# Altium integrated library Analog Devices Data Converters Digital-to-Analog Converters.IntLib: 2231 symbols (part 179 of 181)
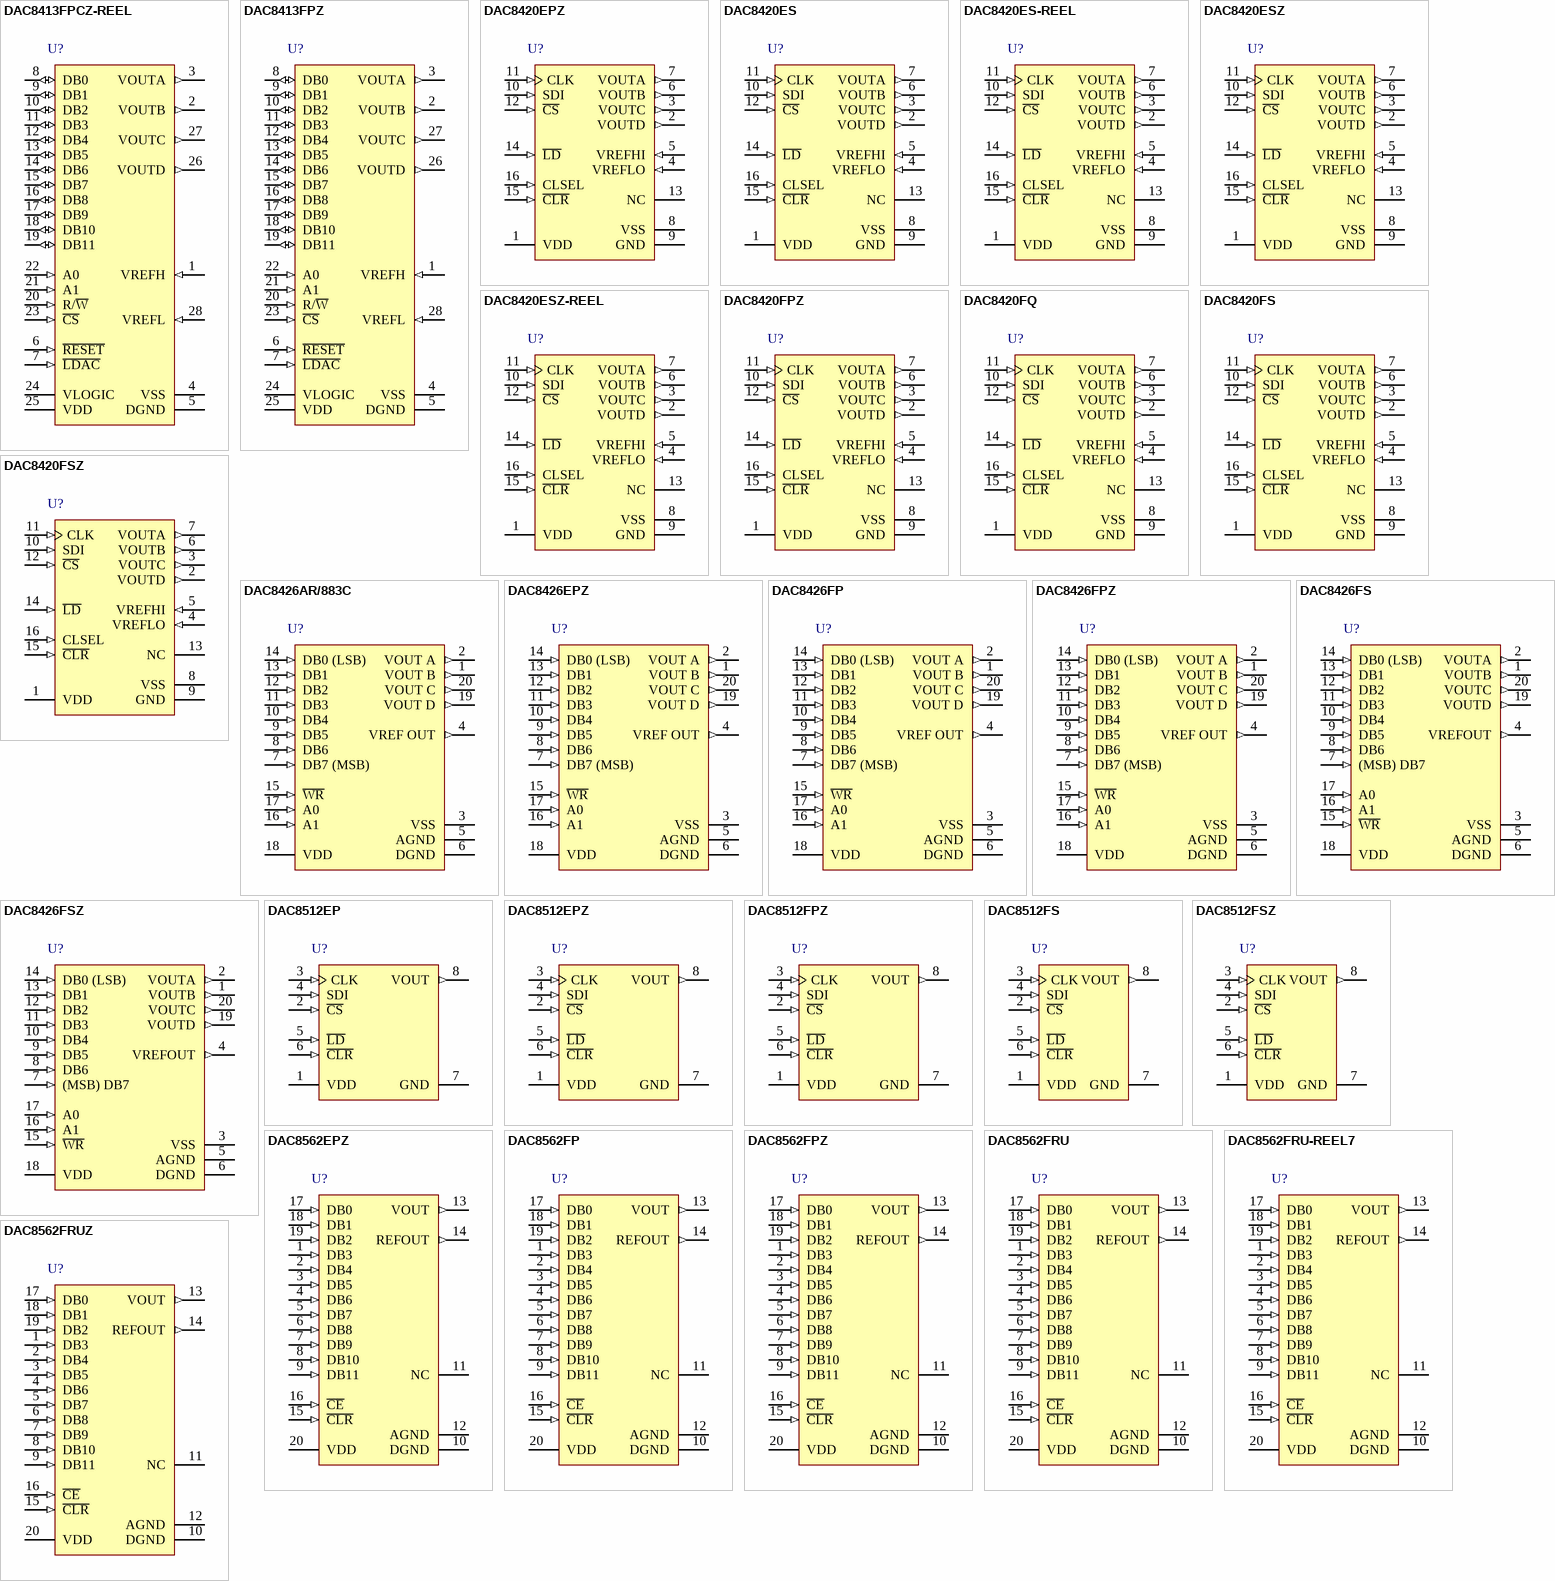
[diagram p292: symbols DAC8413FPCZ-REEL to DAC8562FRUZ]

## DAC8420EPZ
designator U?
Quad 12-Bit Voltage Output Digital-to-Analog Converter, -40 to +85 degC, N-16, Pb-Free, Tube; Generic Part Number: DAC8420; Manufacturer: Analog Devices; PartNumber: DAC8420EPZ; # DAC Outputs: 4; Max V+: 15.75V; Op Pwr Diss: 255mW; Resolution (Bits): 12; Settling Time: 8µs; Single Supply: Yes; DatasheetVersion: Rev.B; PackageVersion: 070706-A; PackageReference: N-16; PackageDescription: 16-Lead Plastic Dual In-Line Package [PDIP] Narrow Body; Supplier 1: Digi-Key; Supplier Part Number 1: DAC8420EPZ-ND; Supplier 2: Newark; Supplier Part Number 2: 59K7945; Supplier 3: Mouser; Supplier Part Number 3: 584-DAC8420EPZ; Packing: Tube; RoHS: Y; Mounting Technology: Through Hole; Code_JEDEC: MS-001; ComponentLink1Description: Manufacturer URL; ComponentLink1URL: http://www.analog.com/en/index.html; ComponentLink2Description: Datasheet; ComponentLink2URL: http://www.analog.com/static/imported-files/data_sheets/DAC8420.pdf; ComponentLink3Description: Package Specification; ComponentLink3URL: http://www.analog.com/static/imported-files/packages/44768431550332N_16.pdf; ComponentLink4Description: Product URL; ComponentLink4URL: http://www.analog.com/en/digital-to-analog-converters/da-converters/dac8420/products/product.html
footprint N-16 (DIP, 16-Leads, Row Spacing 7.62mm, Pitch 2.54mm, Body 20.1x6.6mm)
pins: 1 VDD (power) "Positive Power Supply, 5 V to 15 V.", 2 VOUTD (out) "Buffered DAC Analog Voltage Outputs.", 3 VOUTC (out) "Buffered DAC Analog Voltage Outputs.", 4 VREFLO (in) "Reference Input. Lower DAC ladder reference voltage input, equal to zero-scale output. Allowable range is VSS to (VVREFHI - 2.5 V).", 5 VREFHI (in) "Reference Input. Upper DAC ladder reference voltage input. Allowable range is (VDD - 2.5 V) to ( VVREFLO + 2.5 V).", 6 VOUTB (out) "Buffered DAC Analog Voltage Outputs.", 7 VOUTA (out) "Buffered DAC Analog Voltage Outputs.", 8 VSS (power) "Negative Power Supply, 0 V to -15 V.", 9 GND (power) "Power Supply, Digital Ground.", 10 SDI (in) "Serial Data Input. Data presented to this pin is loaded into the internal serial-parallel shift register,which shifts data in, beginning with DAC Address Bit A1. This input is ignored when C\S\ is high. SDI is CMOS/TTL (See Datasheet)", 11 CLK (in) "System Serial Data Clock Input, TTL/CMOS Levels. Data presented to the input SDI is shifted into the internal serial-parallel input register on the rising edge of clock. This input is logically OR'ed with C\S\.", 12 ~{CS} (in) "Control Input, Device Chip Select, Active Low. This input is logically OR'ed with the clock and disables the serial data register input when high. When low, data input clocking is enabled (see Table 6). C\S\ is CMOS/TTL (See Datasheet)", 13 NC "No Connect = Don't Care.", 14 ~{LD} (in) "Control Input, Asynchronous DAC Register Load Control, Active Low. The data currently contained in the serial input shift register is shifted out to the DAC data registers on the falling edge of L\D\, independent of C\S\. (See Datasheet)", 15 ~{CLR} (in) "Control Input, Asynchronous Clear, Active Low. Sets internal data Register A through Register D to zero or midscale, depending on current state of CLSEL. The data in the serial input shift register is unaffected by this (See Datasheet)", 16 CLSEL (in) "Control Input, Determines action of C\L\R\. If high, a clear command sets the internal DAC Register A through Register D to midscale (0x800). If low, the registers are set to zero (0x000). CLSEL is CMOS/TTL compatible."

## DAC8420ES
designator U?
Quad 12-Bit Voltage Output Digital-to-Analog Converter, -40 to +85 degC, RW-16, Tube; Generic Part Number: DAC8420; Manufacturer: Analog Devices; PartNumber: DAC8420ES; # DAC Outputs: 4; Max V+: 15.75V; Op Pwr Diss: 255mW; Resolution (Bits): 12; Settling Time: 8µs; Single Supply: Yes; DatasheetVersion: Rev.B; PackageVersion: 032707-B; PackageReference: RW-16; PackageDescription: 16-Lead Standard Small Outline Package [SOIC_W]; Supplier 1: Digi-Key; Supplier Part Number 1: DAC8420ES-ND; Supplier 2: Mouser; Supplier Part Number 2: 584-DAC8420ES; Packing: Tube; RoHS: N; Mounting Technology: Surface Mount; Code_JEDEC: MS-013-AA; Code_IPC: SOIC127P1030-16; ComponentLink1Description: Manufacturer URL; ComponentLink1URL: http://www.analog.com/en/index.html; ComponentLink2Description: Datasheet; ComponentLink2URL: http://www.analog.com/static/imported-files/data_sheets/DAC8420.pdf; ComponentLink3Description: Package Specification; ComponentLink3URL: http://www.analog.com/static/imported-files/packages/PKG_PDF/SOIC_WIDE%20%28RW%29/RW_16.pdf; ComponentLink4Description: Product URL; ComponentLink4URL: http://www.analog.com/en/digital-to-analog-converters/da-converters/dac8420/products/product.html
footprint RW-16_N (SOIC, 16-Leads, Body 10.3x7.5mm, Pitch 1.27mm, IPC Medium Density)
footprint RW-16_L (SOIC, 16-Leads, Body 10.3x7.5mm, Pitch 1.27mm, IPC High Density)
footprint RW-16_M (SOIC, 16-Leads, Body 10.3x7.5mm, Pitch 1.27mm, IPC Low Density)
pins: 1 VDD (power) "Positive Power Supply, 5 V to 15 V.", 2 VOUTD (out) "Buffered DAC Analog Voltage Outputs.", 3 VOUTC (out) "Buffered DAC Analog Voltage Outputs.", 4 VREFLO (in) "Reference Input. Lower DAC ladder reference voltage input, equal to zero-scale output. Allowable range is VSS to (VVREFHI - 2.5 V).", 5 VREFHI (in) "Reference Input. Upper DAC ladder reference voltage input. Allowable range is (VDD - 2.5 V) to ( VVREFLO + 2.5 V).", 6 VOUTB (out) "Buffered DAC Analog Voltage Outputs.", 7 VOUTA (out) "Buffered DAC Analog Voltage Outputs.", 8 VSS (power) "Negative Power Supply, 0 V to -15 V.", 9 GND (power) "Power Supply, Digital Ground.", 10 SDI (in) "Serial Data Input. Data presented to this pin is loaded into the internal serial-parallel shift register, which shifts data in, beginning with DAC Address Bit A1. This input is ignored when C\S\ is high. SDI is CMOS/TTL (See Datasheet)", 11 CLK (in) "System Serial Data Clock Input, TTL/CMOS Levels. Data presented to the input SDI is shifted into the internal serial-parallel input register on the rising edge of clock. This input is logically OR’ed with C\S\.", 12 ~{CS} (in) "Control Input, Device Chip Select, Active Low. This input is logically OR’ed with the clock and disables the serial data register input when high. When low, data input clocking is enabled (see Table 6). C\S\ is CMOS/TTL (See Datasheet)", 13 NC "No Connect = Don’t Care.", 14 ~{LD} (in) "Control Input, Asynchronous DAC Register Load Control, Active Low. The data currently contained in the serial input shift register is shifted out to the DAC data registers on the falling edge of L\D\, independent of C\S\. (See Datasheet)", 15 ~{CLR} (in) "Control Input, Asynchronous Clear, Active Low. Sets internal data Register A through Register D to zero or midscale, depending on current state of CLSEL. The data in the serial input shift register is unaffected by this (See Datasheet)", 16 CLSEL (in) "Control Input, Determines action of C\L\R\. If high, a clear command sets the internal DAC Register A through Register D to midscale (0x800). If low, the registers are set to zero (0x000). CLSEL is CMOS/TTL compatible."

## DAC8420ES-REEL
designator U?
Quad 12-Bit Voltage Output Digital-to-Analog Converter, -40 to +85 degC, RW-16, Reel; Generic Part Number: DAC8420; Manufacturer: Analog Devices; PartNumber: DAC8420ES-REEL; # DAC Outputs: 4; Max V+: 15.75V; Op Pwr Diss: 255mW; Resolution (Bits): 12; Settling Time: 8µs; Single Supply: Yes; DatasheetVersion: Rev.B; PackageVersion: 032707-B; PackageReference: RW-16; PackageDescription: 16-Lead Standard Small Outline Package [SOIC_W]; Supplier 1: Digi-Key; Supplier Part Number 1: DAC8420ES-REEL-ND; Supplier 2: Newark; Supplier Part Number 2: 09B8140; Supplier 3: Mouser; Supplier Part Number 3: 584-DAC8420ES-R; Packing: Reel; RoHS: N; Mounting Technology: Surface Mount; Code_JEDEC: MS-013-AA; Code_IPC: SOIC127P1030-16; ComponentLink1Description: Manufacturer URL; ComponentLink1URL: http://www.analog.com/en/index.html; ComponentLink2Description: Datasheet; ComponentLink2URL: http://www.analog.com/static/imported-files/data_sheets/DAC8420.pdf; ComponentLink3Description: Package Specification; ComponentLink3URL: http://www.analog.com/static/imported-files/packages/PKG_PDF/SOIC_WIDE%20%28RW%29/RW_16.pdf; ComponentLink4Description: Product URL; ComponentLink4URL: http://www.analog.com/en/digital-to-analog-converters/da-converters/dac8420/products/product.html
footprint RW-16_N (SOIC, 16-Leads, Body 10.3x7.5mm, Pitch 1.27mm, IPC Medium Density)
footprint RW-16_L (SOIC, 16-Leads, Body 10.3x7.5mm, Pitch 1.27mm, IPC High Density)
footprint RW-16_M (SOIC, 16-Leads, Body 10.3x7.5mm, Pitch 1.27mm, IPC Low Density)
pins: 1 VDD (power) "Positive Power Supply, 5 V to 15 V.", 2 VOUTD (out) "Buffered DAC Analog Voltage Outputs.", 3 VOUTC (out) "Buffered DAC Analog Voltage Outputs.", 4 VREFLO (in) "Reference Input. Lower DAC ladder reference voltage input, equal to zero-scale output. Allowable range is VSS to (VVREFHI - 2.5 V).", 5 VREFHI (in) "Reference Input. Upper DAC ladder reference voltage input. Allowable range is (VDD - 2.5 V) to ( VVREFLO + 2.5 V).", 6 VOUTB (out) "Buffered DAC Analog Voltage Outputs.", 7 VOUTA (out) "Buffered DAC Analog Voltage Outputs.", 8 VSS (power) "Negative Power Supply, 0 V to -15 V.", 9 GND (power) "Power Supply, Digital Ground.", 10 SDI (in) "Serial Data Input. Data presented to this pin is loaded into the internal serial-parallel shift register, which shifts data in, beginning with DAC Address Bit A1. This input is ignored when C\S\ is high. SDI is CMOS/TTL (See Datasheet)", 11 CLK (in) "System Serial Data Clock Input, TTL/CMOS Levels. Data presented to the input SDI is shifted into the internal serial-parallel input register on the rising edge of clock. This input is logically OR’ed with C\S\.", 12 ~{CS} (in) "Control Input, Device Chip Select, Active Low. This input is logically OR’ed with the clock and disables the serial data register input when high. When low, data input clocking is enabled (see Table 6). C\S\ is CMOS/TTL (See Datasheet)", 13 NC "No Connect = Don’t Care.", 14 ~{LD} (in) "Control Input, Asynchronous DAC Register Load Control, Active Low. The data currently contained in the serial input shift register is shifted out to the DAC data registers on the falling edge of L\D\, independent of C\S\. (See Datasheet)", 15 ~{CLR} (in) "Control Input, Asynchronous Clear, Active Low. Sets internal data Register A through Register D to zero or midscale, depending on current state of CLSEL. The data in the serial input shift register is unaffected by this (See Datasheet)", 16 CLSEL (in) "Control Input, Determines action of C\L\R\. If high, a clear command sets the internal DAC Register A through Register D to midscale (0x800). If low, the registers are set to zero (0x000). CLSEL is CMOS/TTL compatible."

## DAC8420ESZ
designator U?
Quad 12-Bit Voltage Output Digital-to-Analog Converter, -40 to +85 degC, RW-16, Pb-Free, Tube; Generic Part Number: DAC8420; Manufacturer: Analog Devices; PartNumber: DAC8420ESZ; # DAC Outputs: 4; Max V+: 15.75V; Op Pwr Diss: 255mW; Resolution (Bits): 12; Settling Time: 8µs; Single Supply: Yes; DatasheetVersion: Rev.B; PackageVersion: 032707-B; PackageReference: RW-16; PackageDescription: 16-Lead Standard Small Outline Package [SOIC_W]; Supplier 1: Digi-Key; Supplier Part Number 1: DAC8420ESZ-ND; Supplier 2: Farnell; Supplier Part Number 2: 9425810; Supplier 3: Newark; Supplier Part Number 3: 19M1213; Supplier 4: Mouser; Supplier Part Number 4: 584-DAC8420ESZ; Packing: Tube; RoHS: Y; Mounting Technology: Surface Mount; Code_JEDEC: MS-013-AA; Code_IPC: SOIC127P1030-16; ComponentLink1Description: Manufacturer URL; ComponentLink1URL: http://www.analog.com/en/index.html; ComponentLink2Description: Datasheet; ComponentLink2URL: http://www.analog.com/static/imported-files/data_sheets/DAC8420.pdf; ComponentLink3Description: Package Specification; ComponentLink3URL: http://www.analog.com/static/imported-files/packages/PKG_PDF/SOIC_WIDE%20%28RW%29/RW_16.pdf; ComponentLink4Description: Product URL; ComponentLink4URL: http://www.analog.com/en/digital-to-analog-converters/da-converters/dac8420/products/product.html
footprint RW-16_N (SOIC, 16-Leads, Body 10.3x7.5mm, Pitch 1.27mm, IPC Medium Density)
footprint RW-16_L (SOIC, 16-Leads, Body 10.3x7.5mm, Pitch 1.27mm, IPC High Density)
footprint RW-16_M (SOIC, 16-Leads, Body 10.3x7.5mm, Pitch 1.27mm, IPC Low Density)
pins: 1 VDD (power) "Positive Power Supply, 5 V to 15 V.", 2 VOUTD (out) "Buffered DAC Analog Voltage Outputs.", 3 VOUTC (out) "Buffered DAC Analog Voltage Outputs.", 4 VREFLO (in) "Reference Input. Lower DAC ladder reference voltage input, equal to zero-scale output. Allowable range is VSS to (VVREFHI - 2.5 V).", 5 VREFHI (in) "Reference Input. Upper DAC ladder reference voltage input. Allowable range is (VDD - 2.5 V) to ( VVREFLO + 2.5 V).", 6 VOUTB (out) "Buffered DAC Analog Voltage Outputs.", 7 VOUTA (out) "Buffered DAC Analog Voltage Outputs.", 8 VSS (power) "Negative Power Supply, 0 V to -15 V.", 9 GND (power) "Power Supply, Digital Ground.", 10 SDI (in) "Serial Data Input. Data presented to this pin is loaded into the internal serial-parallel shift register, which shifts data in, beginning with DAC Address Bit A1. This input is ignored when C\S\ is high. SDI is CMOS/TTL (See Datasheet)", 11 CLK (in) "System Serial Data Clock Input, TTL/CMOS Levels. Data presented to the input SDI is shifted into the internal serial-parallel input register on the rising edge of clock. This input is logically OR’ed with C\S\.", 12 ~{CS} (in) "Control Input, Device Chip Select, Active Low. This input is logically OR’ed with the clock and disables the serial data register input when high. When low, data input clocking is enabled (see Table 6). C\S\ is CMOS/TTL (See Datasheet)", 13 NC "No Connect = Don’t Care.", 14 ~{LD} (in) "Control Input, Asynchronous DAC Register Load Control, Active Low. The data currently contained in the serial input shift register is shifted out to the DAC data registers on the falling edge of L\D\, independent of C\S\. (See Datasheet)", 15 ~{CLR} (in) "Control Input, Asynchronous Clear, Active Low. Sets internal data Register A through Register D to zero or midscale, depending on current state of CLSEL. The data in the serial input shift register is unaffected by this (See Datasheet)", 16 CLSEL (in) "Control Input, Determines action of C\L\R\. If high, a clear command sets the internal DAC Register A through Register D to midscale (0x800). If low, the registers are set to zero (0x000). CLSEL is CMOS/TTL compatible."

## DAC8420ESZ-REEL
designator U?
Quad 12-Bit Voltage Output Digital-to-Analog Converter, -40 to +85 degC, RW-16, Pb-Free, Reel; Generic Part Number: DAC8420; Manufacturer: Analog Devices; PartNumber: DAC8420ESZ-REEL; # DAC Outputs: 4; Max V+: 15.75V; Op Pwr Diss: 255mW; Resolution (Bits): 12; Settling Time: 8µs; Single Supply: Yes; DatasheetVersion: Rev.B; PackageVersion: 032707-B; PackageReference: RW-16; PackageDescription: 16-Lead Standard Small Outline Package [SOIC_W]; Supplier 1: Digi-Key; Supplier Part Number 1: DAC8420ESZ-REEL-ND; Supplier 2: Newark; Supplier Part Number 2: 59K7947; Supplier 3: Mouser; Supplier Part Number 3: 584-DAC8420ESZ-R; Packing: Reel; RoHS: Y; Mounting Technology: Surface Mount; Code_JEDEC: MS-013-AA; Code_IPC: SOIC127P1030-16; ComponentLink1Description: Manufacturer URL; ComponentLink1URL: http://www.analog.com/en/index.html; ComponentLink2Description: Datasheet; ComponentLink2URL: http://www.analog.com/static/imported-files/data_sheets/DAC8420.pdf; ComponentLink3Description: Package Specification; ComponentLink3URL: http://www.analog.com/static/imported-files/packages/PKG_PDF/SOIC_WIDE%20%28RW%29/RW_16.pdf; ComponentLink4Description: Product URL; ComponentLink4URL: http://www.analog.com/en/digital-to-analog-converters/da-converters/dac8420/products/product.html
footprint RW-16_N (SOIC, 16-Leads, Body 10.3x7.5mm, Pitch 1.27mm, IPC Medium Density)
footprint RW-16_L (SOIC, 16-Leads, Body 10.3x7.5mm, Pitch 1.27mm, IPC High Density)
footprint RW-16_M (SOIC, 16-Leads, Body 10.3x7.5mm, Pitch 1.27mm, IPC Low Density)
pins: 1 VDD (power) "Positive Power Supply, 5 V to 15 V.", 2 VOUTD (out) "Buffered DAC Analog Voltage Outputs.", 3 VOUTC (out) "Buffered DAC Analog Voltage Outputs.", 4 VREFLO (in) "Reference Input. Lower DAC ladder reference voltage input, equal to zero-scale output. Allowable range is VSS to (VVREFHI - 2.5 V).", 5 VREFHI (in) "Reference Input. Upper DAC ladder reference voltage input. Allowable range is (VDD - 2.5 V) to ( VVREFLO + 2.5 V).", 6 VOUTB (out) "Buffered DAC Analog Voltage Outputs.", 7 VOUTA (out) "Buffered DAC Analog Voltage Outputs.", 8 VSS (power) "Negative Power Supply, 0 V to -15 V.", 9 GND (power) "Power Supply, Digital Ground.", 10 SDI (in) "Serial Data Input. Data presented to this pin is loaded into the internal serial-parallel shift register, which shifts data in, beginning with DAC Address Bit A1. This input is ignored when C\S\ is high. SDI is CMOS/TTL (See Datasheet)", 11 CLK (in) "System Serial Data Clock Input, TTL/CMOS Levels. Data presented to the input SDI is shifted into the internal serial-parallel input register on the rising edge of clock. This input is logically OR’ed with C\S\.", 12 ~{CS} (in) "Control Input, Device Chip Select, Active Low. This input is logically OR’ed with the clock and disables the serial data register input when high. When low, data input clocking is enabled (see Table 6). C\S\ is CMOS/TTL (See Datasheet)", 13 NC "No Connect = Don’t Care.", 14 ~{LD} (in) "Control Input, Asynchronous DAC Register Load Control, Active Low. The data currently contained in the serial input shift register is shifted out to the DAC data registers on the falling edge of L\D\, independent of C\S\. (See Datasheet)", 15 ~{CLR} (in) "Control Input, Asynchronous Clear, Active Low. Sets internal data Register A through Register D to zero or midscale, depending on current state of CLSEL. The data in the serial input shift register is unaffected by this (See Datasheet)", 16 CLSEL (in) "Control Input, Determines action of C\L\R\. If high, a clear command sets the internal DAC Register A through Register D to midscale (0x800). If low, the registers are set to zero (0x000). CLSEL is CMOS/TTL compatible."

## DAC8420FPZ
designator U?
Quad 12-Bit Voltage Output Digital-to-Analog Converter, -40 to +85 degC, N-16, Pb-Free, Tube; Generic Part Number: DAC8420; Manufacturer: Analog Devices; PartNumber: DAC8420FPZ; # DAC Outputs: 4; Max V+: 15.75V; Op Pwr Diss: 255mW; Resolution (Bits): 12; Settling Time: 8µs; Single Supply: Yes; DatasheetVersion: Rev.B; PackageVersion: 070706-A; PackageReference: N-16; PackageDescription: 16-Lead Plastic Dual In-Line Package [PDIP] Narrow Body; Supplier 1: Digi-Key; Supplier Part Number 1: DAC8420FPZ-ND; Supplier 2: Newark; Supplier Part Number 2: 59K7948; Supplier 3: Mouser; Supplier Part Number 3: 584-DAC8420FPZ; Packing: Tube; RoHS: Y; Mounting Technology: Through Hole; Code_JEDEC: MS-001; ComponentLink1Description: Manufacturer URL; ComponentLink1URL: http://www.analog.com/en/index.html; ComponentLink2Description: Datasheet; ComponentLink2URL: http://www.analog.com/static/imported-files/data_sheets/DAC8420.pdf; ComponentLink3Description: Package Specification; ComponentLink3URL: http://www.analog.com/static/imported-files/packages/44768431550332N_16.pdf; ComponentLink4Description: Product URL; ComponentLink4URL: http://www.analog.com/en/digital-to-analog-converters/da-converters/dac8420/products/product.html
footprint N-16 (DIP, 16-Leads, Row Spacing 7.62mm, Pitch 2.54mm, Body 20.1x6.6mm)
pins: 1 VDD (power) "Positive Power Supply, 5 V to 15 V.", 2 VOUTD (out) "Buffered DAC Analog Voltage Outputs.", 3 VOUTC (out) "Buffered DAC Analog Voltage Outputs.", 4 VREFLO (in) "Reference Input. Lower DAC ladder reference voltage input, equal to zero-scale output. Allowable range is VSS to (VVREFHI - 2.5 V).", 5 VREFHI (in) "Reference Input. Upper DAC ladder reference voltage input. Allowable range is (VDD - 2.5 V) to ( VVREFLO + 2.5 V).", 6 VOUTB (out) "Buffered DAC Analog Voltage Outputs.", 7 VOUTA (out) "Buffered DAC Analog Voltage Outputs.", 8 VSS (power) "Negative Power Supply, 0 V to -15 V.", 9 GND (power) "Power Supply, Digital Ground.", 10 SDI (in) "Serial Data Input. Data presented to this pin is loaded into the internal serial-parallel shift register,which shifts data in, beginning with DAC Address Bit A1. This input is ignored when C\S\ is high. SDI is CMOS/TTL (See Datasheet)", 11 CLK (in) "System Serial Data Clock Input, TTL/CMOS Levels. Data presented to the input SDI is shifted into the internal serial-parallel input register on the rising edge of clock. This input is logically OR'ed with C\S\.", 12 ~{CS} (in) "Control Input, Device Chip Select, Active Low. This input is logically OR'ed with the clock and disables the serial data register input when high. When low, data input clocking is enabled (see Table 6). C\S\ is CMOS/TTL (See Datasheet)", 13 NC "No Connect = Don't Care.", 14 ~{LD} (in) "Control Input, Asynchronous DAC Register Load Control, Active Low. The data currently contained in the serial input shift register is shifted out to the DAC data registers on the falling edge of L\D\, independent of C\S\. (See Datasheet)", 15 ~{CLR} (in) "Control Input, Asynchronous Clear, Active Low. Sets internal data Register A through Register D to zero or midscale, depending on current state of CLSEL. The data in the serial input shift register is unaffected by this (See Datasheet)", 16 CLSEL (in) "Control Input, Determines action of C\L\R\. If high, a clear command sets the internal DAC Register A through Register D to midscale (0x800). If low, the registers are set to zero (0x000). CLSEL is CMOS/TTL compatible."

## DAC8420FQ
designator U?
Quad 12-Bit Voltage Output Digital-to-Analog Converter, -40 to +85 degC, Q-16, Tube; Generic Part Number: DAC8420; Manufacturer: Analog Devices; PartNumber: DAC8420FQ; # DAC Outputs: 4; Max V+: 15.75V; Op Pwr Diss: 255mW; Resolution (Bits): 12; Settling Time: 8µs; Single Supply: Yes; DatasheetVersion: Rev.B; PackageVersion: 1996; PackageReference: Q-16; PackageDescription: DIP, 16-Pin, Skinny Dual In-line Package, 300mil Wide, Pitch 2.54 mm; Supplier 1: Digi-Key; Supplier Part Number 1: DAC8420FQ-ND; Supplier 2: Mouser; Supplier Part Number 2: 584-DAC8420FQ; Packing: Tube; RoHS: N; Mounting Technology: Through Hole; ComponentLink1Description: Manufacturer URL; ComponentLink1URL: http://www.analog.com/en/index.html; ComponentLink2Description: Datasheet; ComponentLink2URL: http://www.analog.com/static/imported-files/data_sheets/DAC8420.pdf; ComponentLink3Description: Package Specification; ComponentLink3URL: http://www.analog.com/static/imported-files/packages/54083157002221Q_16.pdf; ComponentLink4Description: Product URL; ComponentLink4URL: http://www.analog.com/en/digital-to-analog-converters/da-converters/dac8420/products/product.html
footprint Q-16 (DIP, 16-Leads, Row Spacing 7.62mm, Pitch 2.54mm, Body 20.07x6.73mm)
pins: 1 VDD (power) "Positive Power Supply, 5 V to 15 V.", 2 VOUTD (out) "Buffered DAC Analog Voltage Outputs.", 3 VOUTC (out) "Buffered DAC Analog Voltage Outputs.", 4 VREFLO (in) "Reference Input. Lower DAC ladder reference voltage input, equal to zero-scale output. Allowable range is VSS to (VVREFHI - 2.5 V).", 5 VREFHI (in) "Reference Input. Upper DAC ladder reference voltage input. Allowable range is (VDD - 2.5 V) to ( VVREFLO + 2.5 V).", 6 VOUTB (out) "Buffered DAC Analog Voltage Outputs.", 7 VOUTA (out) "Buffered DAC Analog Voltage Outputs.", 8 VSS (power) "Negative Power Supply, 0 V to -15 V.", 9 GND (power) "Power Supply, Digital Ground.", 10 SDI (in) "Serial Data Input. Data presented to this pin is loaded into the internal serial-parallel shift register, which shifts data in, beginning with DAC Address Bit A1. This input is ignored when C\S\ is high. SDI is CMOS/TTL (See Datasheet)", 11 CLK (in) "System Serial Data Clock Input, TTL/CMOS Levels. Data presented to the input SDI is shifted into the internal serial-parallel input register on the rising edge of clock. This input is logically OR’ed with C\S\.", 12 ~{CS} (in) "Control Input, Device Chip Select, Active Low. This input is logically OR’ed with the clock and disables the serial data register input when high. When low, data input clocking is enabled (see Table 6). C\S\ is CMOS/TTL (See Datasheet)", 13 NC "No Connect = Don’t Care.", 14 ~{LD} (in) "Control Input, Asynchronous DAC Register Load Control, Active Low. The data currently contained in the serial input shift register is shifted out to the DAC data registers on the falling edge of L\D\, independent of C\S\. (See Datasheet)", 15 ~{CLR} (in) "Control Input, Asynchronous Clear, Active Low. Sets internal data Register A through Register D to zero or midscale, depending on current state of CLSEL. The data in the serial input shift register is unaffected by this (See Datasheet)", 16 CLSEL (in) "Control Input, Determines action of C\L\R\. If high, a clear command sets the internal DAC Register A through Register D to midscale (0x800). If low, the registers are set to zero (0x000). CLSEL is CMOS/TTL compatible."

## DAC8420FS
designator U?
Quad 12-Bit Voltage Output Digital-to-Analog Converter, -40 to +85 degC, RW-16, Tube; Generic Part Number: DAC8420; Manufacturer: Analog Devices; PartNumber: DAC8420FS; # DAC Outputs: 4; Max V+: 15.75V; Op Pwr Diss: 255mW; Resolution (Bits): 12; Settling Time: 8µs; Single Supply: Yes; DatasheetVersion: Rev.B; PackageVersion: 032707-B; PackageReference: RW-16; PackageDescription: 16-Lead Standard Small Outline Package [SOIC_W]; Supplier 1: Digi-Key; Supplier Part Number 1: DAC8420FS-ND; Supplier 2: Mouser; Supplier Part Number 2: 584-DAC8420FS; Packing: Tube; RoHS: N; Mounting Technology: Surface Mount; Code_JEDEC: MS-013-AA; Code_IPC: SOIC127P1030-16; ComponentLink1Description: Manufacturer URL; ComponentLink1URL: http://www.analog.com/en/index.html; ComponentLink2Description: Datasheet; ComponentLink2URL: http://www.analog.com/static/imported-files/data_sheets/DAC8420.pdf; ComponentLink3Description: Package Specification; ComponentLink3URL: http://www.analog.com/static/imported-files/packages/PKG_PDF/SOIC_WIDE%20%28RW%29/RW_16.pdf; ComponentLink4Description: Product URL; ComponentLink4URL: http://www.analog.com/en/digital-to-analog-converters/da-converters/dac8420/products/product.html
footprint RW-16_N (SOIC, 16-Leads, Body 10.3x7.5mm, Pitch 1.27mm, IPC Medium Density)
footprint RW-16_L (SOIC, 16-Leads, Body 10.3x7.5mm, Pitch 1.27mm, IPC High Density)
footprint RW-16_M (SOIC, 16-Leads, Body 10.3x7.5mm, Pitch 1.27mm, IPC Low Density)
pins: 1 VDD (power) "Positive Power Supply, 5 V to 15 V.", 2 VOUTD (out) "Buffered DAC Analog Voltage Outputs.", 3 VOUTC (out) "Buffered DAC Analog Voltage Outputs.", 4 VREFLO (in) "Reference Input. Lower DAC ladder reference voltage input, equal to zero-scale output. Allowable range is VSS to (VVREFHI - 2.5 V).", 5 VREFHI (in) "Reference Input. Upper DAC ladder reference voltage input. Allowable range is (VDD - 2.5 V) to ( VVREFLO + 2.5 V).", 6 VOUTB (out) "Buffered DAC Analog Voltage Outputs.", 7 VOUTA (out) "Buffered DAC Analog Voltage Outputs.", 8 VSS (power) "Negative Power Supply, 0 V to -15 V.", 9 GND (power) "Power Supply, Digital Ground.", 10 SDI (in) "Serial Data Input. Data presented to this pin is loaded into the internal serial-parallel shift register, which shifts data in, beginning with DAC Address Bit A1. This input is ignored when C\S\ is high. SDI is CMOS/TTL (See Datasheet)", 11 CLK (in) "System Serial Data Clock Input, TTL/CMOS Levels. Data presented to the input SDI is shifted into the internal serial-parallel input register on the rising edge of clock. This input is logically OR’ed with C\S\.", 12 ~{CS} (in) "Control Input, Device Chip Select, Active Low. This input is logically OR’ed with the clock and disables the serial data register input when high. When low, data input clocking is enabled (see Table 6). C\S\ is CMOS/TTL (See Datasheet)", 13 NC "No Connect = Don’t Care.", 14 ~{LD} (in) "Control Input, Asynchronous DAC Register Load Control, Active Low. The data currently contained in the serial input shift register is shifted out to the DAC data registers on the falling edge of L\D\, independent of C\S\. (See Datasheet)", 15 ~{CLR} (in) "Control Input, Asynchronous Clear, Active Low. Sets internal data Register A through Register D to zero or midscale, depending on current state of CLSEL. The data in the serial input shift register is unaffected by this (See Datasheet)", 16 CLSEL (in) "Control Input, Determines action of C\L\R\. If high, a clear command sets the internal DAC Register A through Register D to midscale (0x800). If low, the registers are set to zero (0x000). CLSEL is CMOS/TTL compatible."

## DAC8420FSZ
designator U?
Quad 12-Bit Voltage Output Digital-to-Analog Converter, -40 to +85 degC, RW-16, Pb-Free, Tube; Generic Part Number: DAC8420; Manufacturer: Analog Devices; PartNumber: DAC8420FSZ; # DAC Outputs: 4; Max V+: 15.75V; Op Pwr Diss: 255mW; Resolution (Bits): 12; Settling Time: 8µs; Single Supply: Yes; DatasheetVersion: Rev.B; PackageVersion: 032707-B; PackageReference: RW-16; PackageDescription: 16-Lead Standard Small Outline Package [SOIC_W]; Supplier 1: Digi-Key; Supplier Part Number 1: DAC8420FSZ-ND; Supplier 2: Farnell; Supplier Part Number 2: 1389172; Supplier 3: Newark; Supplier Part Number 3: 12M9670; Supplier 4: Mouser; Supplier Part Number 4: 584-DAC8420FSZ; Packing: Tube; RoHS: Y; Mounting Technology: Surface Mount; Code_JEDEC: MS-013-AA; Code_IPC: SOIC127P1030-16; ComponentLink1Description: Manufacturer URL; ComponentLink1URL: http://www.analog.com/en/index.html; ComponentLink2Description: Datasheet; ComponentLink2URL: http://www.analog.com/static/imported-files/data_sheets/DAC8420.pdf; ComponentLink3Description: Package Specification; ComponentLink3URL: http://www.analog.com/static/imported-files/packages/PKG_PDF/SOIC_WIDE%20%28RW%29/RW_16.pdf; ComponentLink4Description: Product URL; ComponentLink4URL: http://www.analog.com/en/digital-to-analog-converters/da-converters/dac8420/products/product.html
footprint RW-16_N (SOIC, 16-Leads, Body 10.3x7.5mm, Pitch 1.27mm, IPC Medium Density)
footprint RW-16_L (SOIC, 16-Leads, Body 10.3x7.5mm, Pitch 1.27mm, IPC High Density)
footprint RW-16_M (SOIC, 16-Leads, Body 10.3x7.5mm, Pitch 1.27mm, IPC Low Density)
pins: 1 VDD (power) "Positive Power Supply, 5 V to 15 V.", 2 VOUTD (out) "Buffered DAC Analog Voltage Outputs.", 3 VOUTC (out) "Buffered DAC Analog Voltage Outputs.", 4 VREFLO (in) "Reference Input. Lower DAC ladder reference voltage input, equal to zero-scale output. Allowable range is VSS to (VVREFHI - 2.5 V).", 5 VREFHI (in) "Reference Input. Upper DAC ladder reference voltage input. Allowable range is (VDD - 2.5 V) to ( VVREFLO + 2.5 V).", 6 VOUTB (out) "Buffered DAC Analog Voltage Outputs.", 7 VOUTA (out) "Buffered DAC Analog Voltage Outputs.", 8 VSS (power) "Negative Power Supply, 0 V to -15 V.", 9 GND (power) "Power Supply, Digital Ground.", 10 SDI (in) "Serial Data Input. Data presented to this pin is loaded into the internal serial-parallel shift register, which shifts data in, beginning with DAC Address Bit A1. This input is ignored when C\S\ is high. SDI is CMOS/TTL (See Datasheet)", 11 CLK (in) "System Serial Data Clock Input, TTL/CMOS Levels. Data presented to the input SDI is shifted into the internal serial-parallel input register on the rising edge of clock. This input is logically OR’ed with C\S\.", 12 ~{CS} (in) "Control Input, Device Chip Select, Active Low. This input is logically OR’ed with the clock and disables the serial data register input when high. When low, data input clocking is enabled (see Table 6). C\S\ is CMOS/TTL (See Datasheet)", 13 NC "No Connect = Don’t Care.", 14 ~{LD} (in) "Control Input, Asynchronous DAC Register Load Control, Active Low. The data currently contained in the serial input shift register is shifted out to the DAC data registers on the falling edge of L\D\, independent of C\S\. (See Datasheet)", 15 ~{CLR} (in) "Control Input, Asynchronous Clear, Active Low. Sets internal data Register A through Register D to zero or midscale, depending on current state of CLSEL. The data in the serial input shift register is unaffected by this (See Datasheet)", 16 CLSEL (in) "Control Input, Determines action of C\L\R\. If high, a clear command sets the internal DAC Register A through Register D to midscale (0x800). If low, the registers are set to zero (0x000). CLSEL is CMOS/TTL compatible."

## DAC8426AR/883C
designator U?
Quad 8-Bit CMOS Digital-to-Analog Converter with Internal 10 V Reference, -55 to +125 degC, Q-20, Tube; Generic Part Number: DAC8426; Manufacturer: Analog Devices; PartNumber: DAC8426AR/883C; # DAC Outputs: 4; Max V+: 16.5V; Op Pwr Diss: 210mW; Resolution (Bits): 8; Settling Time: 3µs; Single Supply: Yes; DatasheetVersion: Rev.A; PackageVersion: Dec-2004; PackageReference: Q-20; PackageDescription: 20-Lead Ceramic Dual In-Line Package [CERDIP]; Supplier 1: Mouser; Supplier Part Number 1: 584-DAC8426AR883C; Packing: Tube; RoHS: N; Mounting Technology: Through Hole; ComponentLink1Description: Manufacturer URL; ComponentLink1URL: http://www.analog.com/en/index.html; ComponentLink2Description: Datasheet; ComponentLink2URL: http://www.analog.com/static/imported-files/data_sheets/DAC8426_Military.pdf; ComponentLink3Description: Package Specification; ComponentLink3URL: http://www.analog.com/static/imported-files/packages/50516416473314Q_20.pdf; ComponentLink4Description: Product URL; ComponentLink4URL: http://www.analog.com/en/digital-to-analog-converters/da-converters/dac8426/products/product.html
footprint Q-20 (DIP, 20-Leads, Row Spacing 7.62mm, Pitch 2.54mm, Body 25.9x6.7mm)
pins: 1 VOUT B (out), 2 VOUT A (out), 3 VSS (power), 4 VREF OUT (out), 5 AGND (power), 6 DGND (power), 7 DB7 (MSB) (in), 8 DB6 (in), 9 DB5 (in), 10 DB4 (in), 11 DB3 (in), 12 DB2 (in), 13 DB1 (in), 14 DB0 (LSB) (in), 15 ~{WR} (in), 16 A1 (in), 17 A0 (in), 18 VDD (power), 19 VOUT D (out), 20 VOUT C (out)

## DAC8426EPZ
designator U?
Quad 8-Bit CMOS Digital-to-Analog Converter with Internal 10 V Reference, -40 to +85 degC, N-20, Pb-Free, Tube; Generic Part Number: DAC8426; Manufacturer: Analog Devices; PartNumber: DAC8426EPZ; # DAC Outputs: 4; Max V+: 16.5V; Op Pwr Diss: 210mW; Resolution (Bits): 8; Settling Time: 3µs; Single Supply: Yes; DatasheetVersion: Rev.C; PackageVersion: 070706-A; PackageReference: N-20; PackageDescription: 20-Lead Plastic Dual In-Line Package [PDIP] Narrow Body; Supplier 1: Digi-Key; Supplier Part Number 1: DAC8426EPZ-ND; Supplier 2: Mouser; Supplier Part Number 2: 584-DAC8426EPZ; Packing: Tube; RoHS: Y; Mounting Technology: Through Hole; Code_JEDEC: MS-001; ComponentLink1Description: Manufacturer URL; ComponentLink1URL: http://www.analog.com/en/index.html; ComponentLink2Description: Datasheet; ComponentLink2URL: http://www.analog.com/static/imported-files/data_sheets/DAC8426.pdf; ComponentLink3Description: Package Specification; ComponentLink3URL: http://www.analog.com/static/imported-files/packages/50601349676519N_20.pdf; ComponentLink4Description: Product URL; ComponentLink4URL: http://www.analog.com/en/digital-to-analog-converters/da-converters/dac8426/products/product.html
footprint N-20 (DIP, 20-Leads, Row Spacing 7.62mm, Pitch 2.54mm, Body 25.9x6.6mm)
pins: 1 VOUT B (out), 2 VOUT A (out), 3 VSS (power), 4 VREF OUT (out), 5 AGND (power), 6 DGND (power), 7 DB7 (MSB) (in), 8 DB6 (in), 9 DB5 (in), 10 DB4 (in), 11 DB3 (in), 12 DB2 (in), 13 DB1 (in), 14 DB0 (LSB) (in), 15 ~{WR} (in), 16 A1 (in), 17 A0 (in), 18 VDD (power), 19 VOUT D (out), 20 VOUT C (out)

## DAC8426FP
designator U?
Quad 8-Bit CMOS Digital-to-Analog Converter with Internal 10 V Reference, -40 to +85 degC, N-20, Tube; Generic Part Number: DAC8426; Manufacturer: Analog Devices; PartNumber: DAC8426FP; # DAC Outputs: 4; Max V+: 16.5V; Op Pwr Diss: 210mW; Resolution (Bits): 8; Settling Time: 3µs; Single Supply: Yes; DatasheetVersion: Rev.C; PackageVersion: 070706-A; PackageReference: N-20; PackageDescription: 20-Lead Plastic Dual In-Line Package [PDIP] Narrow Body; Supplier 1: Digi-Key; Supplier Part Number 1: DAC8426FP-ND; Supplier 2: Mouser; Supplier Part Number 2: 584-DAC8426FP; Packing: Tube; RoHS: N; Mounting Technology: Through Hole; Code_JEDEC: MS-001; ComponentLink1Description: Manufacturer URL; ComponentLink1URL: http://www.analog.com/en/index.html; ComponentLink2Description: Datasheet; ComponentLink2URL: http://www.analog.com/static/imported-files/data_sheets/DAC8426.pdf; ComponentLink3Description: Package Specification; ComponentLink3URL: http://www.analog.com/static/imported-files/packages/50601349676519N_20.pdf; ComponentLink4Description: Product URL; ComponentLink4URL: http://www.analog.com/en/digital-to-analog-converters/da-converters/dac8426/products/product.html
footprint N-20 (DIP, 20-Leads, Row Spacing 7.62mm, Pitch 2.54mm, Body 25.9x6.6mm)
pins: 1 VOUT B (out), 2 VOUT A (out), 3 VSS (power), 4 VREF OUT (out), 5 AGND (power), 6 DGND (power), 7 DB7 (MSB) (in), 8 DB6 (in), 9 DB5 (in), 10 DB4 (in), 11 DB3 (in), 12 DB2 (in), 13 DB1 (in), 14 DB0 (LSB) (in), 15 ~{WR} (in), 16 A1 (in), 17 A0 (in), 18 VDD (power), 19 VOUT D (out), 20 VOUT C (out)

## DAC8426FPZ
designator U?
Quad 8-Bit CMOS Digital-to-Analog Converter with Internal 10 V Reference, -40 to +85 degC, N-20, Pb-Free, Tube; Generic Part Number: DAC8426; Manufacturer: Analog Devices; PartNumber: DAC8426FPZ; # DAC Outputs: 4; Max V+: 16.5V; Op Pwr Diss: 210mW; Resolution (Bits): 8; Settling Time: 3µs; Single Supply: Yes; DatasheetVersion: Rev.C; PackageVersion: 070706-A; PackageReference: N-20; PackageDescription: 20-Lead Plastic Dual In-Line Package [PDIP] Narrow Body; Supplier 1: Digi-Key; Supplier Part Number 1: DAC8426FPZ-ND; Supplier 2: Mouser; Supplier Part Number 2: 584-DAC8426FPZ; Packing: Tube; RoHS: Y; Mounting Technology: Through Hole; Code_JEDEC: MS-001; ComponentLink1Description: Manufacturer URL; ComponentLink1URL: http://www.analog.com/en/index.html; ComponentLink2Description: Datasheet; ComponentLink2URL: http://www.analog.com/static/imported-files/data_sheets/DAC8426.pdf; ComponentLink3Description: Package Specification; ComponentLink3URL: http://www.analog.com/static/imported-files/packages/50601349676519N_20.pdf; ComponentLink4Description: Product URL; ComponentLink4URL: http://www.analog.com/en/digital-to-analog-converters/da-converters/dac8426/products/product.html
footprint N-20 (DIP, 20-Leads, Row Spacing 7.62mm, Pitch 2.54mm, Body 25.9x6.6mm)
pins: 1 VOUT B (out), 2 VOUT A (out), 3 VSS (power), 4 VREF OUT (out), 5 AGND (power), 6 DGND (power), 7 DB7 (MSB) (in), 8 DB6 (in), 9 DB5 (in), 10 DB4 (in), 11 DB3 (in), 12 DB2 (in), 13 DB1 (in), 14 DB0 (LSB) (in), 15 ~{WR} (in), 16 A1 (in), 17 A0 (in), 18 VDD (power), 19 VOUT D (out), 20 VOUT C (out)

## DAC8426FS
designator U?
Quad 8-Bit CMOS Digital-to-Analog Converter with Internal 10 V Reference, -40 to +85 degC, RW-20, Tube; Generic Part Number: DAC8426; Manufacturer: Analog Devices; PartNumber: DAC8426FS; # DAC Outputs: 4; Max V+: 16.5V; Op Pwr Diss: 210mW; Resolution (Bits): 8; Settling Time: 3µs; Single Supply: Yes; DatasheetVersion: Rev.C; PackageVersion: 060706-A; PackageReference: RW-20; PackageDescription: 20-Lead Standard Small Outline Package [SOIC_W] Wide Body; Supplier 1: Digi-Key; Supplier Part Number 1: DAC8426FS-ND; Supplier 2: Mouser; Supplier Part Number 2: 584-DAC8426FS; Packing: Tube; RoHS: N; Mounting Technology: Surface Mount; Code_JEDEC: MS-013-AC; ComponentLink1Description: Manufacturer URL; ComponentLink1URL: http://www.analog.com/en/index.html; ComponentLink2Description: Datasheet; ComponentLink2URL: http://www.analog.com/static/imported-files/data_sheets/DAC8426.pdf; ComponentLink3Description: Package Specification; ComponentLink3URL: http://www.analog.com/static/imported-files/packages/233848RW_20.pdf; ComponentLink4Description: Product URL; ComponentLink4URL: http://www.analog.com/en/digital-to-analog-converters/da-converters/dac8426/products/product.html
footprint RW-20_N (SOIC, 20-Leads, Body 12.8x7.5mm, Pitch 1.27mm, IPC Medium Density)
footprint RW-20_L (SOIC, 20-Leads, Body 12.8x7.5mm, Pitch 1.27mm, IPC High Density)
footprint RW-20_M (SOIC, 20-Leads, Body 12.8x7.5mm, Pitch 1.27mm, IPC Low Density)
pins: 1 VOUTB (out), 2 VOUTA (out), 3 VSS (power), 4 VREFOUT (out), 5 AGND (power), 6 DGND (power), 7 (MSB) DB7 (in), 8 DB6 (in), 9 DB5 (in), 10 DB4 (in), 11 DB3 (in), 12 DB2 (in), 13 DB1 (in), 14 DB0 (LSB) (in), 15 ~{WR} (in), 16 A1 (in), 17 A0 (in), 18 VDD (power), 19 VOUTD (out), 20 VOUTC (out)

## DAC8426FSZ
designator U?
Quad 8-Bit CMOS Digital-to-Analog Converter with Internal 10 V Reference, -40 to +85 degC, RW-20, Pb-Free, Tube; Generic Part Number: DAC8426; Manufacturer: Analog Devices; PartNumber: DAC8426FSZ; # DAC Outputs: 4; Max V+: 16.5V; Op Pwr Diss: 210mW; Resolution (Bits): 8; Settling Time: 3µs; Single Supply: Yes; DatasheetVersion: Rev.C; PackageVersion: 060706-A; PackageReference: RW-20; PackageDescription: 20-Lead Standard Small Outline Package [SOIC_W] Wide Body; Supplier 1: Digi-Key; Supplier Part Number 1: DAC8426FSZ-ND; Supplier 2: Newark; Supplier Part Number 2: 59K7951; Supplier 3: Mouser; Supplier Part Number 3: 584-DAC8426FSZ; Packing: Tube; RoHS: Y; Mounting Technology: Surface Mount; Code_JEDEC: MS-013-AC; ComponentLink1Description: Manufacturer URL; ComponentLink1URL: http://www.analog.com/en/index.html; ComponentLink2Description: Datasheet; ComponentLink2URL: http://www.analog.com/static/imported-files/data_sheets/DAC8426.pdf; ComponentLink3Description: Package Specification; ComponentLink3URL: http://www.analog.com/static/imported-files/packages/233848RW_20.pdf; ComponentLink4Description: Product URL; ComponentLink4URL: http://www.analog.com/en/digital-to-analog-converters/da-converters/dac8426/products/product.html
footprint RW-20_N (SOIC, 20-Leads, Body 12.8x7.5mm, Pitch 1.27mm, IPC Medium Density)
footprint RW-20_L (SOIC, 20-Leads, Body 12.8x7.5mm, Pitch 1.27mm, IPC High Density)
footprint RW-20_M (SOIC, 20-Leads, Body 12.8x7.5mm, Pitch 1.27mm, IPC Low Density)
pins: 1 VOUTB (out), 2 VOUTA (out), 3 VSS (power), 4 VREFOUT (out), 5 AGND (power), 6 DGND (power), 7 (MSB) DB7 (in), 8 DB6 (in), 9 DB5 (in), 10 DB4 (in), 11 DB3 (in), 12 DB2 (in), 13 DB1 (in), 14 DB0 (LSB) (in), 15 ~{WR} (in), 16 A1 (in), 17 A0 (in), 18 VDD (power), 19 VOUTD (out), 20 VOUTC (out)

## DAC8512EP
designator U?
Single 12-Bit Digital-to-Analog Converter with Serial Interface, -40 to +85 degC, N-8, Tube; Generic Part Number: DAC8512; Manufacturer: Analog Devices; PartNumber: DAC8512EP; # DAC Outputs: 1; Max V+: 5.25V; Op Pwr Diss: 2.5mW; Resolution (Bits): 12; Settling Time: 16µs; Single Supply: Yes; DatasheetVersion: Rev.A; PackageVersion: 070606-A; PackageReference: N-8; PackageDescription: 8-Lead Plastic Dual In-Line Package [PDIP] Narrow Body; Supplier 1: Digi-Key; Supplier Part Number 1: DAC8512EP-ND; Supplier 2: Mouser; Supplier Part Number 2: 584-DAC8512EP; Packing: Tube; RoHS: N; Mounting Technology: Through Hole; Code_JEDEC: MS-001; ComponentLink1Description: Manufacturer URL; ComponentLink1URL: http://www.analog.com/en/index.html; ComponentLink2Description: Datasheet; ComponentLink2URL: http://www.analog.com/static/imported-files/data_sheets/DAC8512.pdf; ComponentLink3Description: Package Specification; ComponentLink3URL: http://www.analog.com/static/imported-files/packages/PKG_PDF/PDIP(N)/N_8.pdf; ComponentLink4Description: Product URL; ComponentLink4URL: http://www.analog.com/en/digital-to-analog-converters/da-converters/dac8512/products/product.html
footprint N-8 (DIP, 8-Leads, Row Spacing 7.62mm, Pitch 2.54mm, Body 9.6x6.6mm)
pins: 1 VDD (power) "Positive Supply. Nominal value +5 V, +/- 5%.", 2 ~{CS} (in) "Chip Select. Active low input.", 3 CLK (in) "Clock input for the internal serial input shift register.", 4 SDI (in) "Serial Data Input. Data on this pin is clocked into the internal serial register on positive clock edges of the CLK pin. The Most Significant Bit (MSB) is loaded first.", 5 ~{LD} (in) "Active low input which writes the serial register data into the DAC register. Asynchronous input.", 6 ~{CLR} (in) "Active low digital input that clears the DAC register to zero, setting the DAC to minimum scale. Asynchronous input.", 7 GND (power) "Analog ground for the DAC. This also serves as the digital logic ground reference voltage.", 8 VOUT (out) "Voltage output from the DAC. Fixed output voltage range of 0 V to 4.095 V with 1 mV/LSB. An internal temperature stabilized reference maintains a fixed full-scale voltage independent of time, temperature and power supply (See Datasheet)"

## DAC8512EPZ
designator U?
Single 12-Bit Digital-to-Analog Converter with Serial Interface, -40 to +85 degC, N-8, Pb-Free, Tube; Generic Part Number: DAC8512; Manufacturer: Analog Devices; PartNumber: DAC8512EPZ; # DAC Outputs: 1; Max V+: 5.25V; Op Pwr Diss: 2.5mW; Resolution (Bits): 12; Settling Time: 16µs; Single Supply: Yes; DatasheetVersion: Rev.A; PackageVersion: 070606-A; PackageReference: N-8; PackageDescription: 8-Lead Plastic Dual In-Line Package [PDIP] Narrow Body; Supplier 1: Digi-Key; Supplier Part Number 1: DAC8512EPZ-ND; Supplier 2: Mouser; Supplier Part Number 2: 584-DAC8512EPZ; Packing: Tube; RoHS: Y; Mounting Technology: Through Hole; Code_JEDEC: MS-001; ComponentLink1Description: Manufacturer URL; ComponentLink1URL: http://www.analog.com/en/index.html; ComponentLink2Description: Datasheet; ComponentLink2URL: http://www.analog.com/static/imported-files/data_sheets/DAC8512.pdf; ComponentLink3Description: Package Specification; ComponentLink3URL: http://www.analog.com/static/imported-files/packages/PKG_PDF/PDIP(N)/N_8.pdf; ComponentLink4Description: Product URL; ComponentLink4URL: http://www.analog.com/en/digital-to-analog-converters/da-converters/dac8512/products/product.html
footprint N-8 (DIP, 8-Leads, Row Spacing 7.62mm, Pitch 2.54mm, Body 9.6x6.6mm)
pins: 1 VDD (power) "Positive Supply. Nominal value +5 V, +/- 5%.", 2 ~{CS} (in) "Chip Select. Active low input.", 3 CLK (in) "Clock input for the internal serial input shift register.", 4 SDI (in) "Serial Data Input. Data on this pin is clocked into the internal serial register on positive clock edges of the CLK pin. The Most Significant Bit (MSB) is loaded first.", 5 ~{LD} (in) "Active low input which writes the serial register data into the DAC register. Asynchronous input.", 6 ~{CLR} (in) "Active low digital input that clears the DAC register to zero, setting the DAC to minimum scale. Asynchronous input.", 7 GND (power) "Analog ground for the DAC. This also serves as the digital logic ground reference voltage.", 8 VOUT (out) "Voltage output from the DAC. Fixed output voltage range of 0 V to 4.095 V with 1 mV/LSB. An internal temperature stabilized reference maintains a fixed full-scale voltage independent of time, temperature and power supply (See Datasheet)"

## DAC8512FPZ
designator U?
Single 12-Bit Digital-to-Analog Converter with Serial Interface, -40 to +85 degC, N-8, Pb-Free, Tube; Generic Part Number: DAC8512; Manufacturer: Analog Devices; PartNumber: DAC8512FPZ; # DAC Outputs: 1; Max V+: 5.25V; Op Pwr Diss: 2.5mW; Resolution (Bits): 12; Settling Time: 16µs; Single Supply: Yes; DatasheetVersion: Rev.A; PackageVersion: 070606-A; PackageReference: N-8; PackageDescription: 8-Lead Plastic Dual In-Line Package [PDIP] Narrow Body; Supplier 1: Digi-Key; Supplier Part Number 1: DAC8512FPZ-ND; Supplier 2: Farnell; Supplier Part Number 2: 1389173; Supplier 3: Farnell; Supplier Part Number 3: 1319493; Supplier 4: Newark; Supplier Part Number 4: 19M8959; Supplier 5: Mouser; Supplier Part Number 5: 584-DAC8512FPZ; Packing: Tube; RoHS: Y; Mounting Technology: Through Hole; Code_JEDEC: MS-001; ComponentLink1Description: Manufacturer URL; ComponentLink1URL: http://www.analog.com/en/index.html; ComponentLink2Description: Datasheet; ComponentLink2URL: http://www.analog.com/static/imported-files/data_sheets/DAC8512.pdf; ComponentLink3Description: Package Specification; ComponentLink3URL: http://www.analog.com/static/imported-files/packages/PKG_PDF/PDIP(N)/N_8.pdf; ComponentLink4Description: Product URL; ComponentLink4URL: http://www.analog.com/en/digital-to-analog-converters/da-converters/dac8512/products/product.html
footprint N-8 (DIP, 8-Leads, Row Spacing 7.62mm, Pitch 2.54mm, Body 9.6x6.6mm)
pins: 1 VDD (power) "Positive Supply. Nominal value +5 V, +/- 5%.", 2 ~{CS} (in) "Chip Select. Active low input.", 3 CLK (in) "Clock input for the internal serial input shift register.", 4 SDI (in) "Serial Data Input. Data on this pin is clocked into the internal serial register on positive clock edges of the CLK pin. The Most Significant Bit (MSB) is loaded first.", 5 ~{LD} (in) "Active low input which writes the serial register data into the DAC register. Asynchronous input.", 6 ~{CLR} (in) "Active low digital input that clears the DAC register to zero, setting the DAC to minimum scale. Asynchronous input.", 7 GND (power) "Analog ground for the DAC. This also serves as the digital logic ground reference voltage.", 8 VOUT (out) "Voltage output from the DAC. Fixed output voltage range of 0 V to 4.095 V with 1 mV/LSB. An internal temperature stabilized reference maintains a fixed full-scale voltage independent of time, temperature and power supply (See Datasheet)"